# Altium footprint library pedals-headers.PCBLIB: 17 footprints (part 1 of 2)
Each footprint in its own frame and in the unit in brackets; x right, y up, seen from the top. Pads: shape width x height; smd on the part's side, far side on the other; paste and mask are expansions set on the pad; w line width, h text height; cw(c..) or ccw(c..) is an arc to the next point about the centre after c.
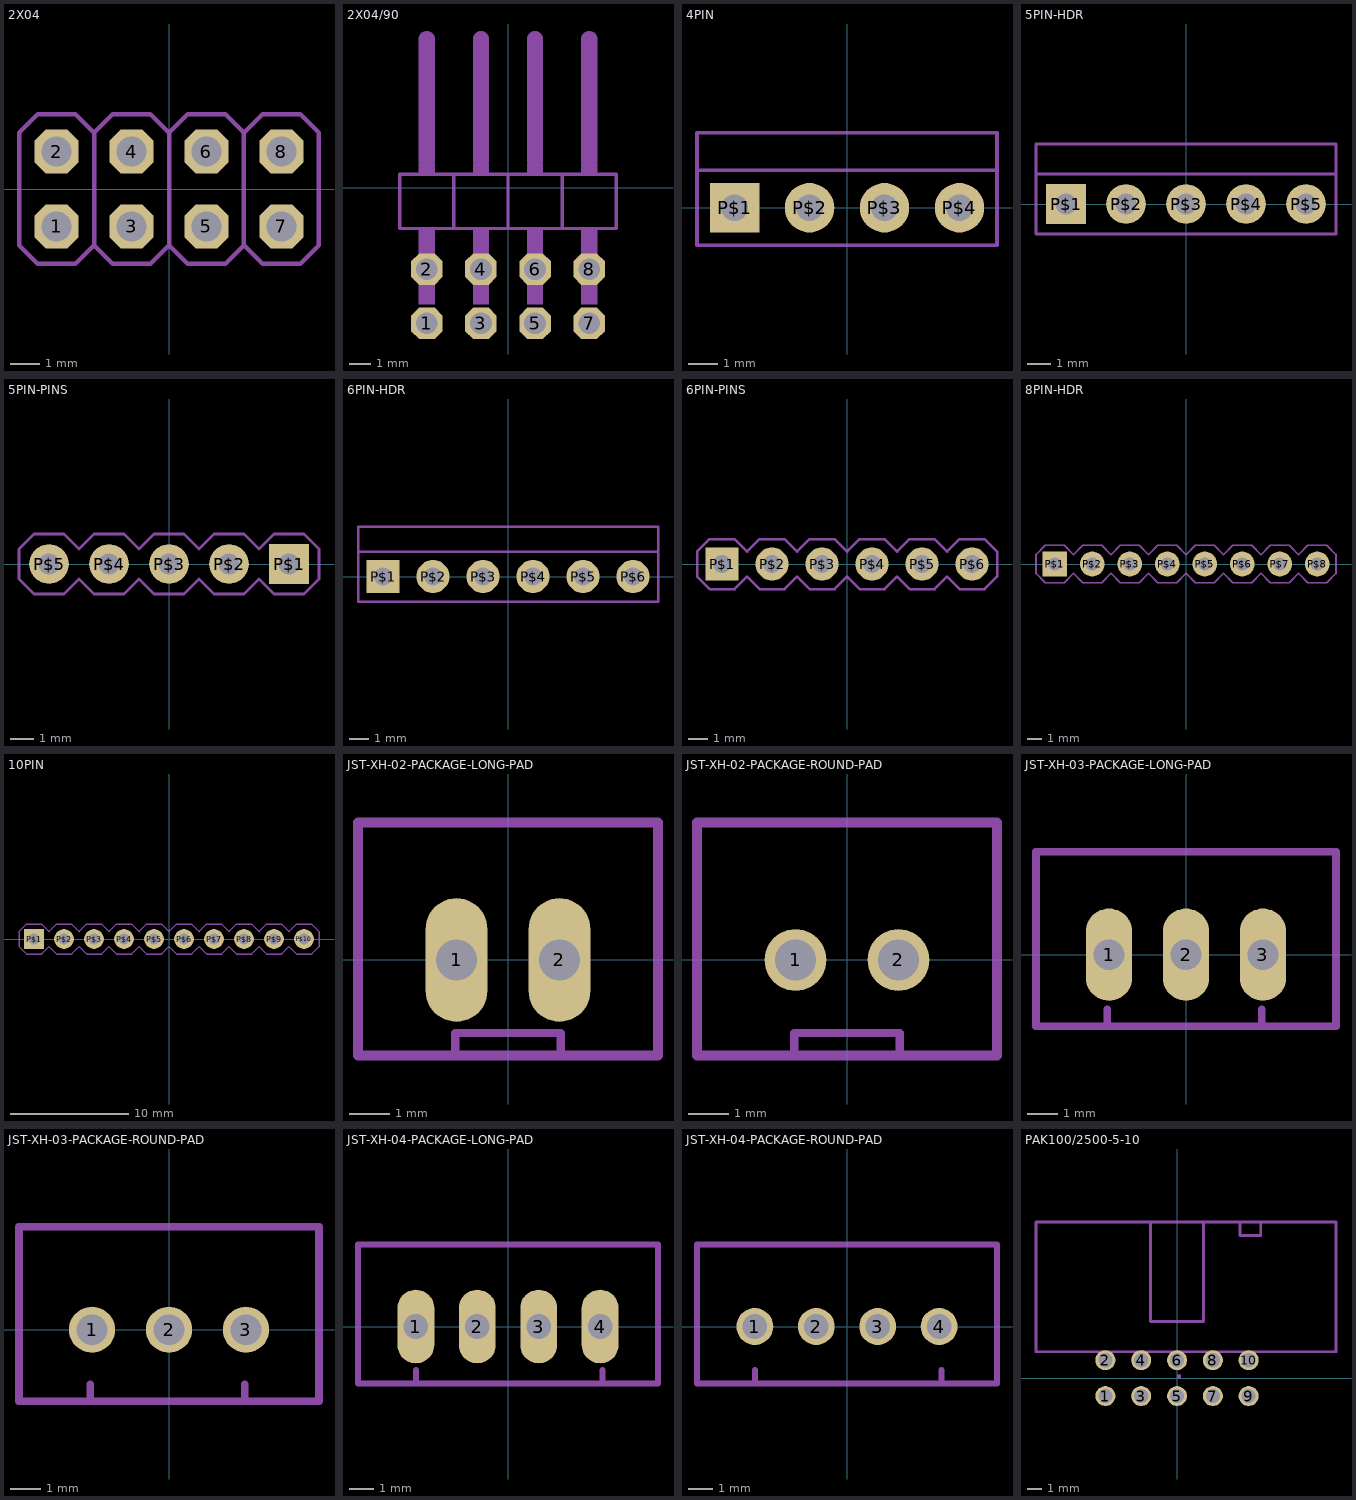
[diagram p0: the footprints below, top view; thin cyan lines are the x and y axes]

## 2X04 [mil]
pads (8):
  oct 58.09x58.09 hole 40: 1(-150,-50) 2(-150,50) 3(-50,-50) 4(-50,50) 5(50,-50) 6(50,50) 7(150,-50) 8(150,50)
Mechanical 2:
  lines w6: -100,-75 -125,-100 -175,-100 -200,-75 -200,75 -175,100 -125,100 -100,75 ; -100,-75 -75,-100 -25,-100 0,-75 ; -100,-75 -100,75 ; -100,75 -75,100 -25,100 0,75 ; 0,-75 25,-100 75,-100 100,-75 ; 0,-75 0,75 ; 0,75 25,100 75,100 100,75 ; 100,-75 100,75 ; 100,-75 125,-100 175,-100 200,-75 200,75 175,100 125,100 100,75
Mechanical 18:
  rectangle: -160,-60 -140,-40
  rectangle: -160,40 -140,60
  rectangle: -60,40 -40,60
  rectangle: -60,-60 -40,-40
  rectangle: 40,40 60,60
  rectangle: 40,-60 60,-40
  rectangle: 140,40 160,60
  rectangle: 140,-60 160,-40

## 2X04/90 [mil]
pads (8):
  oct 58.09x58.09 hole 40: 1(-150,-250) 2(-150,-150) 3(-50,-250) 4(-50,-150) 5(50,-250) 6(50,-150) 7(150,-250) 8(150,-150)
Mechanical 2:
  rectangle: -165,25 -135,45
  rectangle: -65,25 -35,45
  rectangle: 35,25 65,45
  rectangle: 135,25 165,45
  rectangle: -165,-115 -135,-75
  rectangle: -65,-115 -35,-75
  rectangle: -165,-215 -135,-185
  rectangle: -65,-215 -35,-185
  rectangle: 35,-115 65,-75
  rectangle: 135,-115 165,-75
  rectangle: 35,-215 65,-185
  rectangle: 135,-215 165,-185
  lines w6: -100,-75 -200,-75 -200,25 -100,25 ; -100,-75 -100,25 ; -100,-75 0,-75 ; -100,25 0,25 ; 0,-75 0,25 ; 0,-75 100,-75 ; 0,25 100,25 ; 100,-75 100,25 ; 100,-75 200,-75 200,25 100,25
  lines w30: -150,50 -150,275 ; -50,50 -50,275 ; 50,50 50,275 ; 150,50 150,275
Mechanical 18:
  rectangle: -165,-185 -135,-115
  rectangle: -65,-185 -35,-115
  rectangle: 35,-185 65,-115
  rectangle: 135,-185 165,-115

## 4PIN [mil]
pads (4):
  rect 66x66 hole 35.43: P$1(-150,0)
  round 66 hole 35.43: P$2(-50,0) P$3(50,0) P$4(150,0)
Mechanical 2:
  lines w5: -200,50 200,50 ; -200,50 -200,-50 200,-50 200,50 ; -200,50 -200,100 200,100 200,50
Mechanical 3:
  lines w5: -200,50 200,50 ; -200,50 -200,-50 200,-50 200,50 ; -200,50 -200,100 200,100 200,50

## 5PIN-HDR [mil]
pads (5):
  rect 66x66 hole 35.43: P$1(-200,0)
  round 66 hole 35.43: P$2(-100,0) P$3(0,0) P$4(100,0) P$5(200,0)
Mechanical 2:
  lines w5: -250,50 250,50 ; -250,50 -250,-50 250,-50 250,50 ; -250,50 -250,100 250,100 250,50

## 5PIN-PINS [mil]
pads (5):
  rect 66x66 hole 35.43: P$1(200,0)
  round 66 hole 35.43: P$2(100,0) P$3(0,0) P$4(-100,0) P$5(-200,0)
Mechanical 2:
  lines w5: -250,-25 -225,-50 -175,-50 -150,-25 -125,-50 -75,-50 -50,-25 -25,-50 25,-50 50,-25 75,-50 125,-50 150,-25 175,-50 225,-50 250,-25 250,25 225,50 175,50 150,25 125,50 75,50 50,25 25,50 -25,50 -50,25 -75,50 -125,50 -150,25 -175,50 -225,50 -250,25 -250,-25

## 6PIN-HDR [mil]
pads (6):
  rect 66x66 hole 35.43: P$1(-250,0)
  round 66 hole 35.43: P$2(-150,0) P$3(-50,0) P$4(50,0) P$5(150,0) P$6(250,0)
Mechanical 2:
  lines w5: -300,50 300,50 ; -300,50 -300,-50 300,-50 300,50 ; -300,50 -300,100 300,100 300,50

## 6PIN-PINS [mil]
pads (6):
  rect 66x66 hole 35.43: P$1(-250,0)
  round 66 hole 35.43: P$2(-150,0) P$3(-50,0) P$4(50,0) P$5(150,0) P$6(250,0)
Mechanical 2:
  lines w5: -300,-25 -275,-50 -225,-50 -200,-25 -175,-50 -125,-50 -100,-25 -75,-50 -25,-50 0,-25 25,-50 75,-50 100,-25 125,-50 175,-50 200,-25 225,-50 275,-50 300,-25 300,25 275,50 225,50 200,25 175,50 125,50 100,25 75,50 25,50 0,25 -25,50 -75,50 -100,25 -125,50 -175,50 -200,25 -225,50 -275,50 -300,25 -300,-25

## 8PIN-HDR [mil]
pads (8):
  rect 66x66 hole 35.43: P$1(-350,0)
  round 66 hole 35.43: P$2(-250,0) P$3(-150,0) P$4(-50,0) P$5(50,0) P$6(150,0) P$7(250,0) P$8(350,0)
Mechanical 2:
  lines w5: -400,-25 -375,-50 -325,-50 -300,-25 -275,-50 -225,-50 -200,-25 -175,-50 -125,-50 -100,-25 -75,-50 -25,-50 0,-25 25,-50 75,-50 100,-25 125,-50 175,-50 200,-25 225,-50 275,-50 300,-25 325,-50 375,-50 400,-25 400,25 375,50 325,50 300,25 275,50 225,50 200,25 175,50 125,50 100,25 75,50 25,50 0,25 -25,50 -75,50 -100,25 -125,50 -175,50 -200,25 -225,50 -275,50 -300,25 -325,50 -375,50 -400,25 -400,-25

## 10PIN [mil]
pads (10):
  rect 66x66 hole 35.43: P$1(-450,0)
  round 66 hole 35.43: P$2(-350,0) P$3(-250,0) P$4(-150,0) P$5(-50,0) P$6(50,0) P$7(150,0) P$8(250,0) P$9(350,0) P$10(450,0)
Mechanical 2:
  lines w5: -500,-25 -475,-50 -425,-50 -400,-25 -375,-50 -325,-50 -300,-25 -275,-50 -225,-50 -200,-25 -175,-50 -125,-50 -100,-25 -75,-50 -25,-50 0,-25 25,-50 75,-50 100,-25 125,-50 175,-50 200,-25 225,-50 275,-50 300,-25 325,-50 375,-50 400,-25 425,-50 475,-50 500,-25 500,25 475,50 425,50 400,25 375,50 325,50 300,25 275,50 225,50 200,25 175,50 125,50 100,25 75,50 25,50 0,25 -25,50 -75,50 -100,25 -125,50 -175,50 -200,25 -225,50 -275,50 -300,25 -325,50 -375,50 -400,25 -425,50 -475,50 -500,25 -500,-25

## JST-XH-02-PACKAGE-LONG-PAD [mil]
pads (2):
  oval 60x120 hole 40: 1(-50,0) 2(50,0)
Mechanical 2:
  lines w7.87: -51.18,-90.55 -51.18,-70.87 51.18,-70.87 51.18,-90.55
  lines w10: -145.67,-92.82 -145.67,133.56 145.67,133.56 145.67,-92.82 -145.67,-92.82

## JST-XH-02-PACKAGE-ROUND-PAD [mil]
pads (2):
  round 60 hole 40: 1(-50,0) 2(50,0)
Mechanical 2:
  lines w7.87: -51.18,-90.55 -51.18,-70.87 51.18,-70.87 51.18,-90.55
  lines w10: -145.67,-92.82 -145.67,133.56 145.67,133.56 145.67,-92.82 -145.67,-92.82

## JST-XH-03-PACKAGE-LONG-PAD [mil]
pads (3):
  oval 60x120 hole 40: 1(-100,0) 2(0,0) 3(100,0)
Mechanical 2:
  lines w10: -102.36,-90.55 -102.36,-70.87 ; 98.43,-90.55 98.43,-70.87 ; -194.88,-92.82 -194.88,133.56 194.88,133.56 194.88,-92.82 -194.88,-92.82

## JST-XH-03-PACKAGE-ROUND-PAD [mil]
pads (3):
  round 60 hole 40: 1(-100,0) 2(0,0) 3(100,0)
Mechanical 2:
  lines w10: -102.36,-90.55 -102.36,-70.87 ; 98.43,-90.55 98.43,-70.87 ; -194.88,-92.82 -194.88,133.56 194.88,133.56 194.88,-92.82 -194.88,-92.82

## JST-XH-04-PACKAGE-LONG-PAD [mil]
pads (4):
  oval 60x120 hole 40: 1(-150,0) 2(-50,0) 3(50,0) 4(150,0)
Mechanical 2:
  lines w10: -149.61,-90.55 -149.61,-70.87 ; 153.54,-90.55 153.54,-70.87 ; -244.09,-92.82 -244.09,133.56 244.09,133.56 244.09,-92.82 -244.09,-92.82

## JST-XH-04-PACKAGE-ROUND-PAD [mil]
pads (4):
  round 60 hole 40: 1(-150,0) 2(-50,0) 3(50,0) 4(150,0)
Mechanical 2:
  lines w10: -149.61,-90.55 -149.61,-70.87 ; 153.54,-90.55 153.54,-70.87 ; -244.09,-92.82 -244.09,133.56 244.09,133.56 244.09,-92.82 -244.09,-92.82

## PAK100/2500-5-10 [mil]
pads (10):
  round 56 hole 39.37: 1(-200,-50) 2(-200,50) 3(-100,-50) 4(-100,50) 5(0,-50) 6(0,50) 7(100,-50) 8(100,50) 9(200,-50) 10(200,50)
Mechanical 2:
  region: 0,0 10,0 10,10 0,10
  lines w8: -254.17,73.82 -393.7,73.82 -393.7,436.02 -74.13,436.02 ; 303.66,73.82 443.7,73.82 443.7,436.02 233.78,436.02 ; -74.13,436.02 -74.13,157.87 74.13,157.87 74.13,436.02 ; -74.13,436.02 74.13,436.02 ; 74.13,436.02 175.55,436.02 ; 175.55,436.02 233.78,436.02 ; 175.55,436.02 175.55,397.83 233.78,397.83 233.78,436.02
Mechanical 18:
  lines w8: -254.02,73.82 303.5,73.82